# Altium schematic symbol library ERJ-1GNF2262C.SchLib: 1 symbol
Pins are listed as number, name and electrical type; pins without a type are passive.

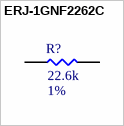
[diagram p0: symbol ERJ-1GNF2262C]

## ERJ-1GNF2262C
designator R?  Resistance: 22.6k  Tolerance: 1%  (hidden comment: ERJ-1GNF2262C)
RES SMD 22.6K OHM 1% 1/20W 0201; MFR: Panasonic Electronic Components; PN: ERJ-1GNF2262C; Footprint: RES0201; Package: 0201; ComponentLink1Description: Datasheet; ComponentLink1URL: https://www.mouser.com/datasheet/2/315/AOA0000C304-1149620.pdf; Power Rating: 1/20W; Supplier 1: Mouser; Supplier Part Number 1: 667-ERJ-1GNF2262C
footprint RES0201 (A generic 0201 footprint)
pins: 1, 2